# Altium footprint library E_SWITCH_TL3305.PcbLib: 1 footprints
Each footprint in its own frame and in the unit in brackets; x right, y up, seen from the top. Pads: shape width x height; smd on the part's side, far side on the other; paste and mask are expansions set on the pad; w line width, h text height; cw(c..) or ccw(c..) is an arc to the next point about the centre after c.
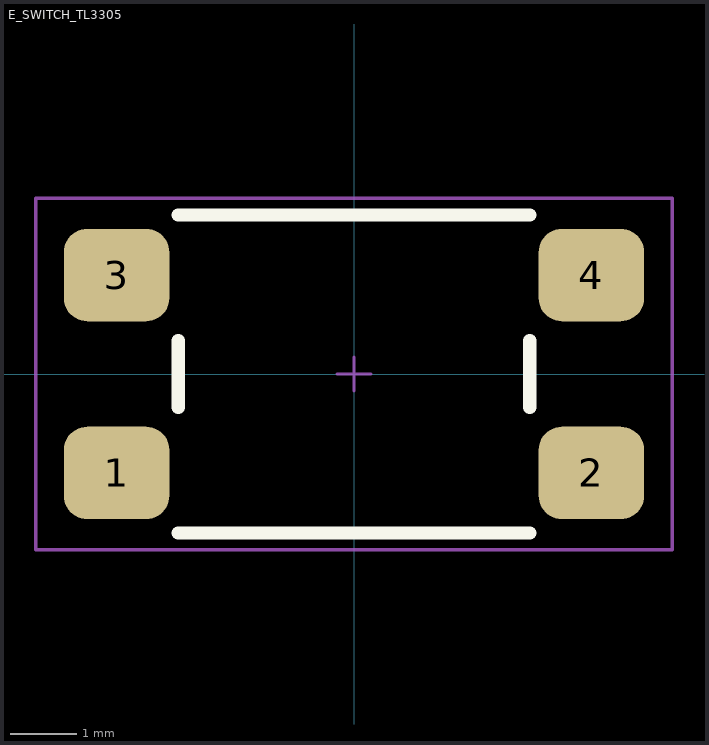
[diagram p0: the footprint, top view; thin cyan lines are the x and y axes]

## E_SWITCH_TL3305 [mm]
pads (4):
  rrect50% 1.6x1.4 smd: 1(-3.6,-1.5) 2(3.6,-1.5) 3(-3.6,1.5) 4(3.6,1.5)
Top Overlay:
  lines w0.2: -2.667,-2.413 2.667,-2.413 ; -2.667,-0.508 -2.667,0.508 ; -2.667,2.413 2.667,2.413 ; 2.667,-0.508 2.667,0.508
Mechanical 15:
  lines w0.05: -0.254,0 0.254,0 ; 0,-0.254 0,0.254 ; -4.826,-2.667 -4.826,2.667 4.826,2.667 4.826,-2.667 -4.826,-2.667
3D body "TL3305AFxxxxG.stp": height 3.8, standoff 0, extent -3.75,-2.25 3.75,2.25